# EAGLE library part USBLC6-2 (library myLib)
http://www.farnell.com/datasheets/1690354.pdf?_ga=1.240650499.1400796248.1488872329
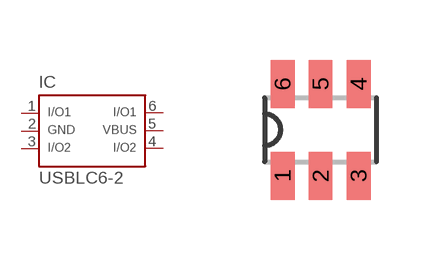
[diagram p2: symbol with the pads of SOT-23-6L; footprint SOT-23-6L]

Designator prefix IC

## USBLC6-2  [SOT-23-6L]
1  P$1
2  P$2
3  P$3
4  P$4
5  P$5
6  P$6

## Footprint SOT-23-6L (pad centres in mm)
http://www.farnell.com/datasheets/1690354.pdf?_ga=1.240650499.1400796248.1488872329
smd 0.6 x 1.2: 1 -0.95,-1.15; 2 0,-1.15; 3 0.95,-1.15; 4 0.95,1.15; 5 0,1.15; 6 -0.95,1.15